# Altium schematic symbol library SC16IS762.SchLib: 1 symbol
Pins are listed as number, name and electrical type; pins without a type are passive.

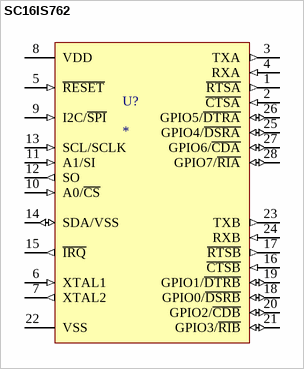
[diagram p0: symbol SC16IS762]

## SC16IS762
designator U?
NXP - SC16IS762IPW,112 - IC, DUAL UART, FIFO, 5MBPS 3.6V, TSSOP28; farnell: 1831260
footprint SC16IS762IPW (NXP - SC16IS762IPW,112 - IC, DUAL UART, FIFO, 5MBPS 3.6V, TSSOP28)
pins: 1 ~{RTSA} (out), 2 ~{CTSA} (in), 3 TXA (out), 4 RXA (in), 5 ~{RESET} (in), 6 XTAL1 (in), 7 XTAL2 (out), 8 VDD (power), 9 I2C/~{SPI} (in), 10 A0/~{CS} (in), 11 A1/SI (in), 12 SO (out), 13 SCL/SCLK (in), 14 SDA/VSS (io), 15 ~{IRQ} (out), 16 ~{CTSB} (in), 17 ~{RTSB} (out), 18 GPIO0/~{DSRB} (io), 19 GPIO1/~{DTRB} (io), 20 GPIO2/~{CDB} (io), 21 GPIO3/~{RIB} (io), 22 VSS (power), 23 TXB (out), 24 RXB (in), 25 GPIO4/~{DSRA} (io), 26 GPIO5/~{DTRA} (io), 27 GPIO6/~{CDA} (io), 28 GPIO7/~{RIA} (io)